# EAGLE library part NETZMODUL_EXELEC_1W (library Trafo)
Netzmodul EX-ELEC, 2*Us, 1W
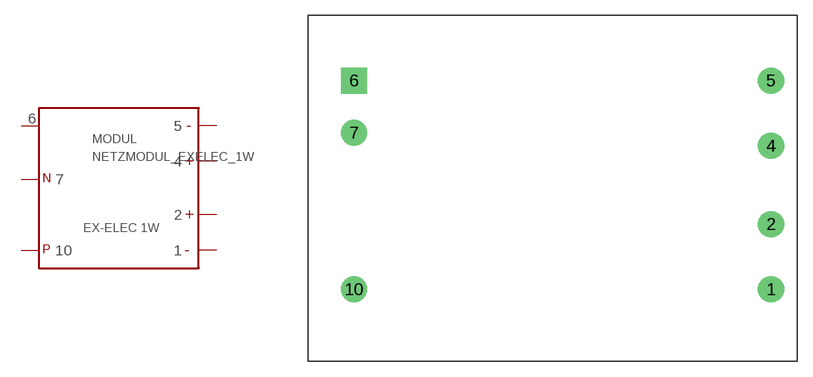
[diagram p7: symbol with the pads of NETZMODUL_1W; footprint NETZMODUL_1W]

Designator prefix MODUL

## NETZMODUL_EXELEC_1W  [NETZMODUL_1W]
1  1  pas
2  2  pas
4  4  pas
5  5  pas
6  6  pas
7  7  pas
10  10  pas

## Footprint NETZMODUL_1W (pad centres in mm)
drill 1 pad 2.54: 1 15.24,-12.7; 2 15.24,-6.35; 4 15.24,1.27; 5 15.24,7.62; 7 -25.4,2.54; 10 -25.4,-12.7
drill 1 pad 2.54 square: 6 -25.4,7.62